# Altium schematic symbol library Bonjour.SchLib: 7 symbols
Pins are listed as number, name and electrical type; pins without a type are passive.

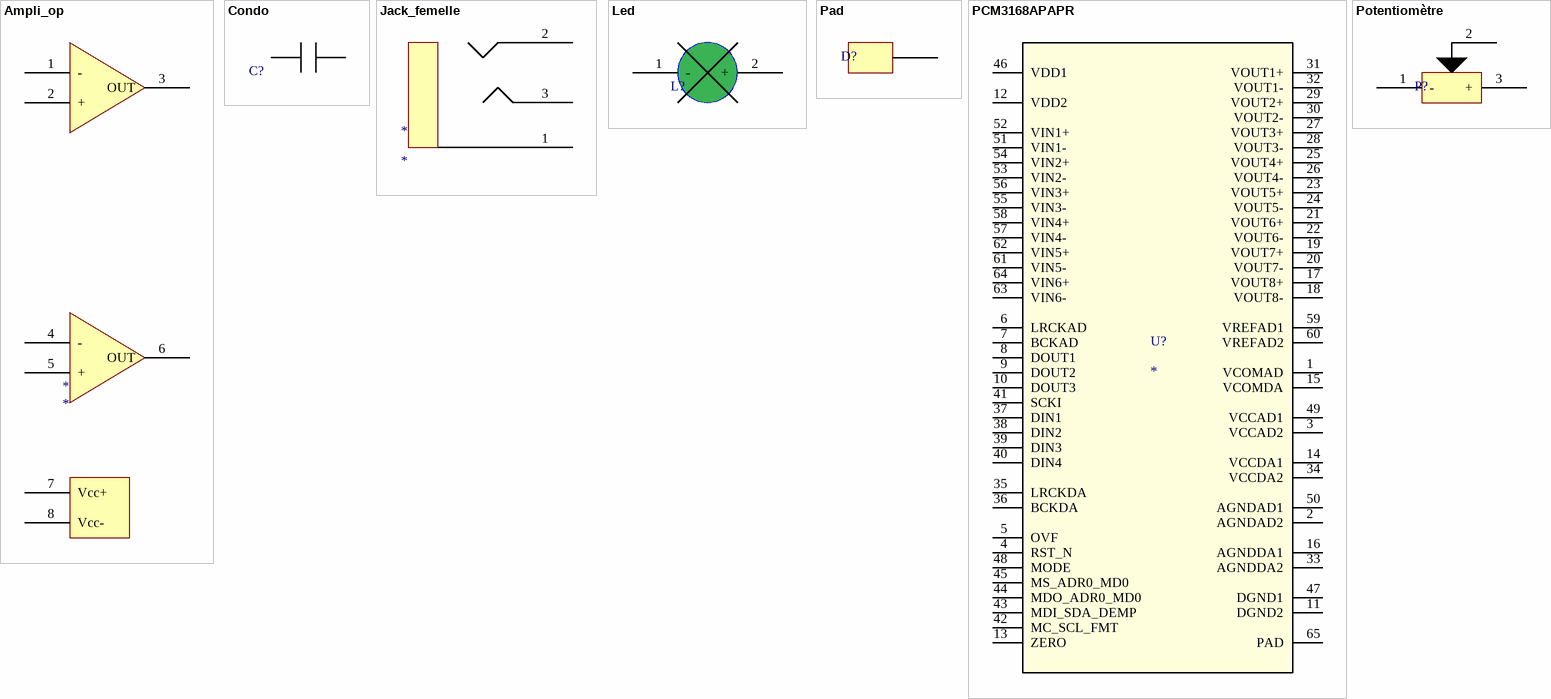
[diagram p0: symbols Ampli_op to Potentiomètre]

## Ampli_op
designator *
pins: 1 -, 2 +, 3 OUT, 4 -, 5 +, 6 OUT, 7 Vcc+, 8 Vcc-

## Condo
designator C?  (value not drawn)
footprint Condo
pins: 1 k, 2 k

## Jack_femelle
designator *
footprint Jack_Femelle
pins: 1 GND, 2 L, 3 R

## Led
designator L?  (value not drawn)
footprint Led
pins: 1 -, 2 +

## Pad
designator D?  (value not drawn)
footprint Pad
pins: 1

## PCM3168APAPR
designator U?
Imported; PartNumber: PCM3168APAPR; Manufacturer: Texas Instruments; RefDes: RefDes; TYPE: TYPE; Value: Value
footprint PAP0064J_N
pins: 1 VCOMAD, 2 AGNDAD2, 3 VCCAD2, 4 RST_N, 5 OVF, 6 LRCKAD, 7 BCKAD, 8 DOUT1, 9 DOUT2, 10 DOUT3, 11 DGND2, 12 VDD2, 13 ZERO, 14 VCCDA1, 15 VCOMDA, 16 AGNDDA1, 17 VOUT8+, 18 VOUT8-, 19 VOUT7+, 20 VOUT7-, 21 VOUT6+, 22 VOUT6-, 23 VOUT5+, 24 VOUT5-, 25 VOUT4+, 26 VOUT4-, 27 VOUT3+, 28 VOUT3-, 29 VOUT2+, 30 VOUT2-, 31 VOUT1+, 32 VOUT1-, 33 AGNDDA2, 34 VCCDA2, 35 LRCKDA, 36 BCKDA, 37 DIN1, 38 DIN2, 39 DIN3, 40 DIN4, 41 SCKI, 42 MC_SCL_FMT, 43 MDI_SDA_DEMP, 44 MDO_ADR0_MD0, 45 MS_ADR0_MD0, 46 VDD1, 47 DGND1, 48 MODE, 49 VCCAD1, 50 AGNDAD1, 51 VIN1-, 52 VIN1+, 53 VIN2-, 54 VIN2+, 55 VIN3-, 56 VIN3+, 57 VIN4-, 58 VIN4+, 59 VREFAD1, 60 VREFAD2, 61 VIN5-, 62 VIN5+, 63 VIN6-, 64 VIN6+, 65 PAD

## Potentiomètre
designator P?  (value not drawn)
footprint Trimmer
pins: 1 -, 2 RD, 3 +